# Altium footprint library SM_PTCFUSE_MF-SM.PcbLib: 1 footprints
Each footprint in its own frame and in the unit in brackets; x right, y up, seen from the top. Pads: shape width x height; smd on the part's side, far side on the other; paste and mask are expansions set on the pad; w line width, h text height; cw(c..) or ccw(c..) is an arc to the next point about the centre after c.
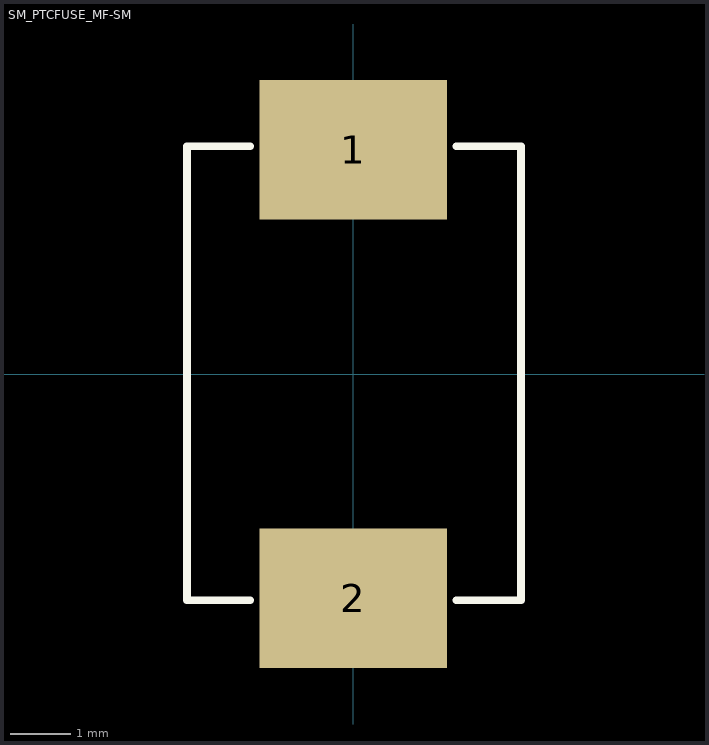
[diagram p0: the footprint, top view; thin cyan lines are the x and y axes]

## SM_PTCFUSE_MF-SM [mm]
height 3.18
pads (2):
  rect 3.1x2.3 smd: 1(0,3.7) 2(0,-3.7)
Top Overlay:
  lines w0.127: -1.702,-3.734 -2.743,-3.734 -2.743,3.759 -1.702,3.759 ; 1.702,-3.734 2.769,-3.734 2.769,3.759 1.702,3.759
3D body "mf-sm075.stp": height 3.18, standoff 0, extent -2.72,-3.678 2.72,3.677
3D body: height 4, standoff 0, extent 1.575,0.432 1.575,0.432